# EAGLE library part PIC24FJ*GA008 (library microchip)
64/80/100-Pin General Purpose, 16-Bit Flash Microcontrollers Source: http://ww1.microchip.com/downloads/en/DeviceDoc/39747d.pdf
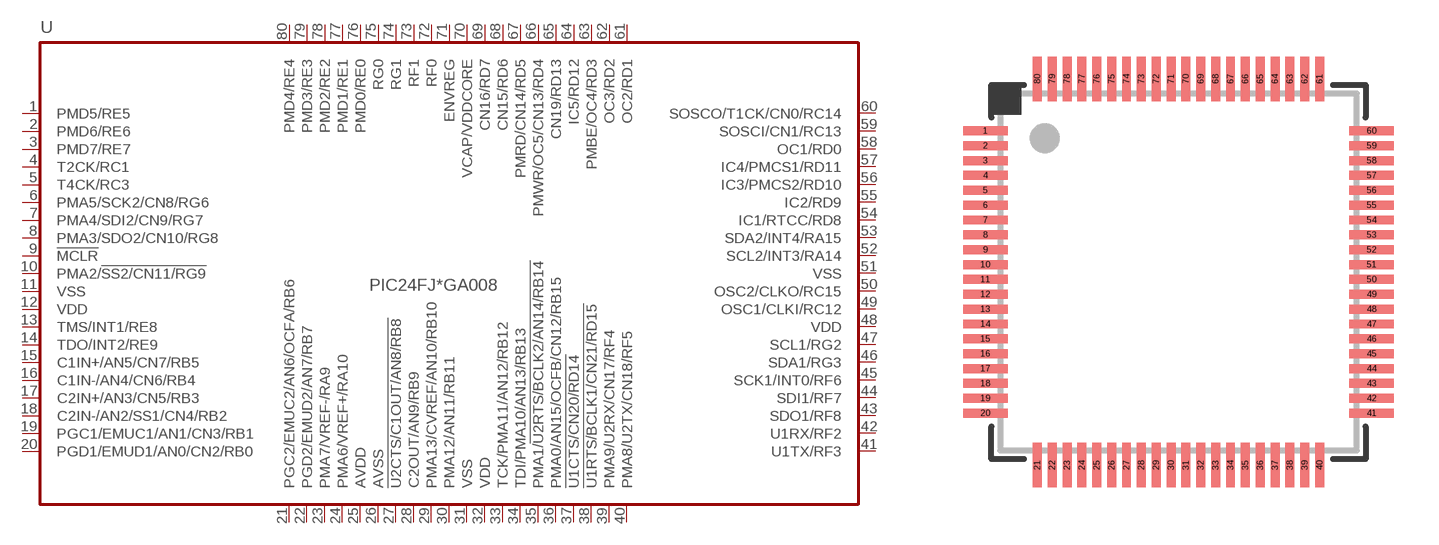
[diagram p83: symbol with the pads of TQFP80-12X12; footprint TQFP80-12X12]

Designator prefix U

## PIC24FJ128GA008, PIC24FJ64GA008, PIC24FJ96GA008  [TQFP80-12X12]
1  PMD5/RE5
2  PMD6/RE6
3  PMD7/RE7
4  T2CK/RC1
5  T4CK/RC3
6  PMA5/SCK2/CN8/RG6
7  PMA4/SDI2/CN9/RG7
8  PMA3/SDO2/CN10/RG8
9  !MCLR
10  PMA2/!SS2/CN11/RG9
11  VSS  pwr
12  VDD  pwr
13  TMS/INT1/RE8
14  TDO/INT2/RE9
15  C1IN+/AN5/CN7/RB5
16  C1IN-/AN4/CN6/RB4
17  C2IN+/AN3/CN5/RB3
18  C2IN-/AN2/SS1/CN4/RB2
19  PGC1/EMUC1/AN1/CN3/RB1
20  PGD1/EMUD1/AN0/CN2/RB0
21  PGC2/EMUC2/AN6/OCFA/RB6
22  PGD2/EMUD2/AN7/RB7
23  PMA7/VREF-/RA9
24  PMA6/VREF+/RA10
25  AVDD  pwr
26  AVSS  pwr
27  !U2CTS/C1OUT/AN8/RB8
28  C2OUT/AN9/RB9
29  PMA13/CVREF/AN10/RB10
30  PMA12/AN11/RB11
31  VSS  pwr
32  VDD  pwr
33  TCK/PMA11/AN12/RB12
34  TDI/PMA10/AN13/RB13
35  PMA1/!U2RTS/BCLK2/AN14/RB14
36  PMA0/AN15/OCFB/CN12/RB15
37  !U1CTS/CN20/RD14
38  !U1RTS/BCLK1/CN21/RD15
39  PMA9/U2RX/CN17/RF4
40  PMA8/U2TX/CN18/RF5
41  U1TX/RF3
42  U1RX/RF2
43  SDO1/RF8
44  SDI1/RF7
45  SCK1/INT0/RF6
46  SDA1/RG3
47  SCL1/RG2
48  VDD  pwr
49  OSC1/CLKI/RC12
50  OSC2/CLKO/RC15
51  VSS  pwr
52  SCL2/INT3/RA14
53  SDA2/INT4/RA15
54  IC1/RTCC/RD8
55  IC2/RD9
56  IC3/PMCS2/RD10
57  IC4/PMCS1/RD11
58  OC1/RD0
59  SOSCI/CN1/RC13
60  SOSCO/T1CK/CN0/RC14
61  OC2/RD1
62  OC3/RD2
63  PMBE/OC4/RD3
64  IC5/RD12
65  CN19/RD13
66  PMWR/OC5/CN13/RD4
67  PMRD/CN14/RD5
68  CN15/RD6
69  CN16/RD7
70  VCAP/VDDCORE
71  ENVREG
72  RF0
73  RF1
74  RG1
75  RG0
76  PMD0/RE0
77  PMD1/RE1
78  PMD2/RE2
79  PMD3/RE3
80  PMD4/RE4

## Footprint TQFP80-12X12 (pad centres in mm)
TQFP80 12x12x1 mm Body Source: http://www.microchip.com/ .. 39663c.pdf
smd 1.5 x 0.3: 1 -6.5,4.75; 2 -6.5,4.25; 3 -6.5,3.75; 4 -6.5,3.25; 5 -6.5,2.75; 6 -6.5,2.25; 7 -6.5,1.75; 8 -6.5,1.25; 9 -6.5,0.75; 10 -6.5,0.25; 11 -6.5,-0.25; 12 -6.5,-0.75; 13 -6.5,-1.25; 14 -6.5,-1.75; 15 -6.5,-2.25; 16 -6.5,-2.75; 17 -6.5,-3.25; 18 -6.5,-3.75; 19 -6.5,-4.25; 20 -6.5,-4.75; 41 6.5,-4.75; 42 6.5,-4.25; 43 6.5,-3.75; 44 6.5,-3.25; 45 6.5,-2.75; 46 6.5,-2.25; 47 6.5,-1.75; 48 6.5,-1.25; 49 6.5,-0.75; 50 6.5,-0.25; 51 6.5,0.25; 52 6.5,0.75; 53 6.5,1.25; 54 6.5,1.75; 55 6.5,2.25; 56 6.5,2.75; 57 6.5,3.25; 58 6.5,3.75; 59 6.5,4.25; 60 6.5,4.75
smd 0.3 x 1.5: 21 -4.75,-6.5; 22 -4.25,-6.5; 23 -3.75,-6.5; 24 -3.25,-6.5; 25 -2.75,-6.5; 26 -2.25,-6.5; 27 -1.75,-6.5; 28 -1.25,-6.5; 29 -0.75,-6.5; 30 -0.25,-6.5; 31 0.25,-6.5; 32 0.75,-6.5; 33 1.25,-6.5; 34 1.75,-6.5; 35 2.25,-6.5; 36 2.75,-6.5; 37 3.25,-6.5; 38 3.75,-6.5; 39 4.25,-6.5; 40 4.75,-6.5; 61 4.75,6.5; 62 4.25,6.5; 63 3.75,6.5; 64 3.25,6.5; 65 2.75,6.5; 66 2.25,6.5; 67 1.75,6.5; 68 1.25,6.5; 69 0.75,6.5; 70 0.25,6.5; 71 -0.25,6.5; 72 -0.75,6.5; 73 -1.25,6.5; 74 -1.75,6.5; 75 -2.25,6.5; 76 -2.75,6.5; 77 -3.25,6.5; 78 -3.75,6.5; 79 -4.25,6.5; 80 -4.75,6.5